# Altium schematic symbol library Eric.SchLib: 21 symbols
Pins are listed as number, name and electrical type; pins without a type are passive.

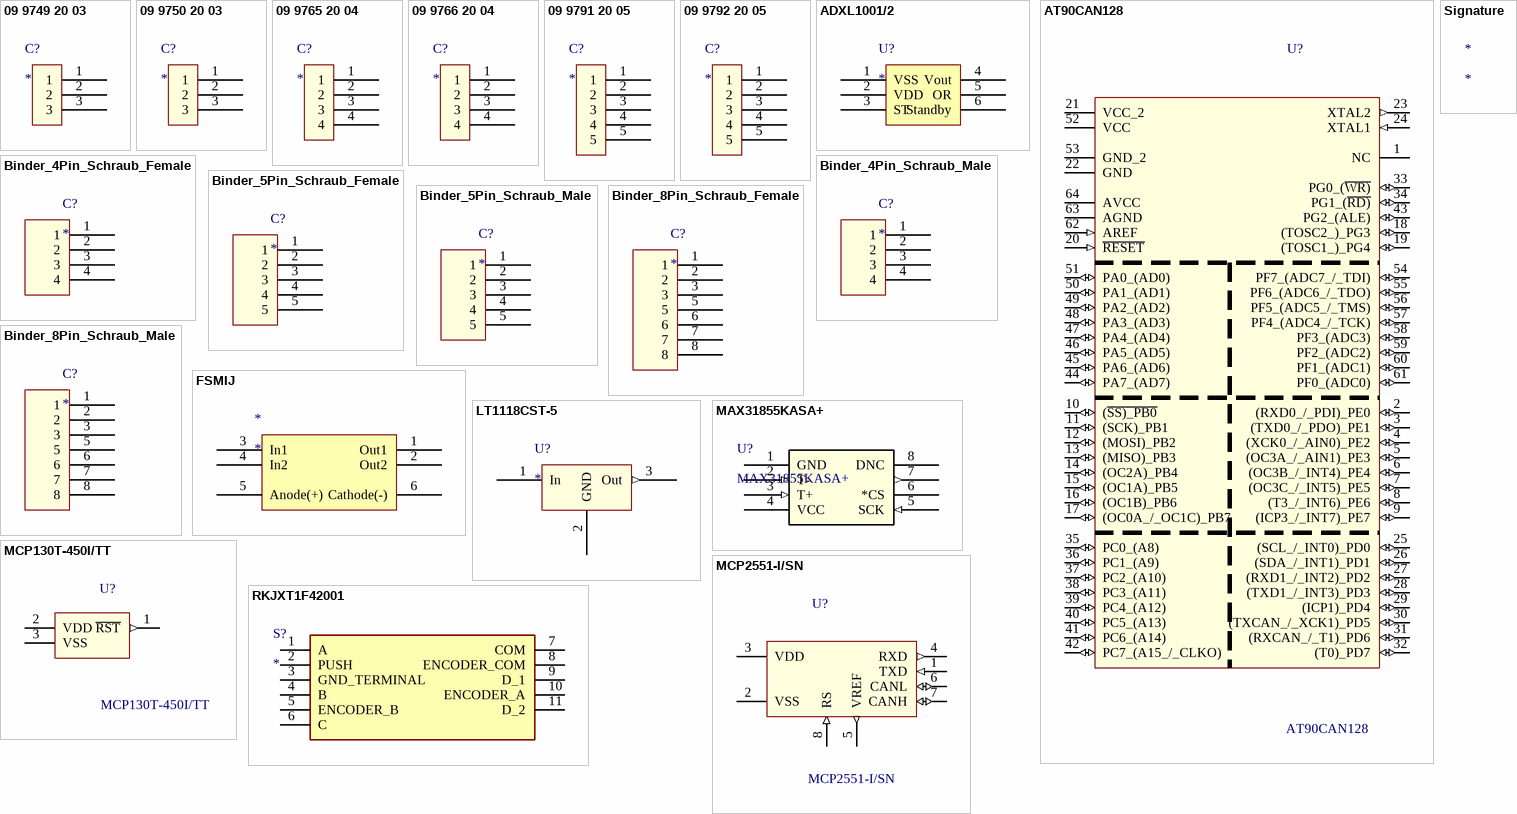
[diagram p0: symbols 09 9749 20 03 to Signature]

## 09 9749 20 03
designator C?
Binder 3 Pin Male SnapIn
footprint 09 9749 20 03 (Binder_3pin_snapin_male)
pins: 1, 2, 3

## 09 9750 20 03
designator C?
Binder 3 Pin Female SnapIn
footprint 09 9750 20 03 (Binder_3pin_snapin_female)
pins: 1, 2, 3

## 09 9765 20 04
designator C?
Binder 4 Pin Male SnapIn
footprint 09 9765 20 04 (Binder_4pin_snapin_male)
pins: 1, 2, 3, 4

## 09 9766 20 04
designator C?
Binder 4 Pin Female SnapIn
footprint 09 9766 20 04 (Binder_4pin_snapin_female)
pins: 1, 2, 3, 4

## 09 9791 20 05
designator C?
Binder 5 Pin Male SnapIn
footprint 09 9791 20 05 (Binder_5pin_snapin_male)
pins: 1, 2, 3, 4, 5

## 09 9792 20 05
designator C?
Binder 5 Pin Female SnapIn
footprint 09 9792 20 05 (Binder_5pin_snapin_female)
pins: 1, 2, 3, 4, 5

## ADXL1001/2
designator U?
footprint PCBComponent_1; pin to pad 1>13 2>12 3>16 4>30 5>20 6>15
pins: 1 VSS, 2 VDD, 3 ST, 4 Vout, 5 OR, 6 Standby

## AT90CAN128
designator U?
Ic Mcu 8bit 128kb Flash 64tqfp; MP: AT90CAN128-16AI; MF: Microchip; Package: TQFP-64 Microchip; SnapEDA_Link: https://www.snapeda.com/parts/AT90CAN128-16AI/Microchip/view-part/?ref=snap; Price: None; Availability: Unavailable; Value: *
footprint AT90CAN128-16MU (QFN, 64-Leads, Body 9,00x9,00mm, Pitch 0,50mm, Thermal Pad 5,25x5,25mm, IPC Medium Density)
footprint *QFP80P1600X1600X120-64N
pins: 1 NC, 2 (RXD0_/_PDI)_PE0 (io), 3 (TXD0_/_PDO)_PE1 (io), 4 (XCK0_/_AIN0)_PE2 (io), 5 (OC3A_/_AIN1)_PE3 (io), 6 (OC3B_/_INT4)_PE4 (io), 7 (OC3C_/_INT5)_PE5 (io), 8 (T3_/_INT6)_PE6 (io), 9 (ICP3_/_INT7)_PE7 (io), 10 (~{SS)_PB0} (io), 11 (SCK)_PB1 (io), 12 (MOSI)_PB2 (io), 13 (MISO)_PB3 (io), 14 (OC2A)_PB4 (io), 15 (OC1A)_PB5 (io), 16 (OC1B)_PB6 (io), 17 (OC0A_/_OC1C)_PB7 (io), 18 (TOSC2_)_PG3 (io), 19 (TOSC1_)_PG4 (io), 20 ~{RESET} (in), 21 VCC_2 (power), 22 GND, 23 XTAL2 (out), 24 XTAL1 (in), 25 (SCL_/_INT0)_PD0 (io), 26 (SDA_/_INT1)_PD1 (io), 27 (RXD1_/_INT2)_PD2 (io), 28 (TXD1_/_INT3)_PD3 (io), 29 (ICP1)_PD4 (io), 30 (TXCAN_/_XCK1)_PD5 (io), 31 (RXCAN_/_T1)_PD6 (io), 32 (T0)_PD7 (io), 33 PG0_(~{WR)} (io), 34 PG1_(~{RD)} (io), 35 PC0_(A8) (io), 36 PC1_(A9) (io), 37 PC2_(A10) (io), 38 PC3_(A11) (io), 39 PC4_(A12) (io), 40 PC5_(A13) (io), 41 PC6_(A14) (io), 42 PC7_(A15_/_CLKO) (io), 43 PG2_(ALE) (io), 44 PA7_(AD7) (io), 45 PA6_(AD6) (io), 46 PA5_(AD5) (io), 47 PA4_(AD4) (io), 48 PA3_(AD3) (io), 49 PA2_(AD2) (io), 50 PA1_(AD1) (io), 51 PA0_(AD0) (io), 52 VCC (power), 53 GND_2, 54 PF7_(ADC7_/_TDI) (io), 55 PF6_(ADC6_/_TDO) (io), 56 PF5_(ADC5_/_TMS) (io), 57 PF4_(ADC4_/_TCK) (io), 58 PF3_(ADC3) (io), 59 PF2_(ADC2) (io), 60 PF1_(ADC1) (io), 61 PF0_(ADC0) (io), 62 AREF (in), 63 AGND, 64 AVCC (power)

## Binder_4Pin_Schraub_Female
designator C?
footprint 09 0412 30 04 (M9 IP67 Flanschdose, Polzahl: 4, schirmbar, mit Schirmblech, tauchlöten, IP67)
pins: 1, 2, 3, 4

## Binder_4Pin_Schraub_Male
designator C?
footprint 09 0411 30 04 (M9 IP67 Flanschstecker, Polzahl: 4, schirmbar, mit Schirmblech, tauchlöten, IP67)
pins: 1, 2, 3, 4

## Binder_5Pin_Schraub_Female
designator C?
footprint 09 0416 30 05 (M9 IP67 Flanschdose, Polzahl: 4, schirmbar, mit Schirmblech, tauchlöten, IP67)
pins: 1, 2, 3, 4, 5

## Binder_5Pin_Schraub_Male
designator C?
footprint 09 0415 30 05 (M9 IP67 Flanschstecker, Polzahl: 5, schirmbar, mit Schirmblech, tauchlöten, IP67)
pins: 1, 2, 3, 4, 5

## Binder_8Pin_Schraub_Female
designator C?
footprint 09 0428 30 08 (M9 IP67 Flanschdose, Polzahl: 8, schirmbar, mit Schirmblech, tauchlöten, IP67)
pins: 1, 2, 3, 5, 6, 7, 8

## Binder_8Pin_Schraub_Male
designator C?
footprint 09 0427 30 08 (M9 IP67 Flanschstecker, Polzahl: 8, schirmbar, mit Schirmblech, tauchlöten, IP67)
pins: 1, 2, 3, 5, 6, 7, 8

## FSMIJ
designator *
footprint FSMIJ
pins: 1 Out1, 2 Out2, 3 In1, 4 In2, 5 Anode(+), 6 Cathode(-)

## LT1118CST-5
designator U?
or UA78M if used topdown (in and out changed)
footprint *SOT230P700X180-4N
pins: 1 In (power), 2 GND, 3 Out (out)

## MAX31855KASA+
designator U?
No Description Available; Vendor: Maxim Integrated Products; Built_By: EMA_UL_Team; Manufacturer_Part_Number: MAX31855KASA+; Copyright: Copyright (C) 2018 Accelerated Designs. All rights reserved; RefDes: RefDes; Type: DEV; Value: Value
footprint SOIC8 (SOIC, 8-Leads, Body 4,90x3,90mm, Pitch 1,27mm, IPC Low Density)
pins: 1 GND (power), 2 T- (in), 3 T+ (in), 4 VCC (power), 5 SCK (in), 6 *CS, 7 SO (out), 8 DNC

## MCP130T-450I/TT
designator U?
System Supervisors - Power Supply Monitors with Reset Generators Open Drain Low; MF: Microchip; MP: MCP120T-450I/TT; Price: None; SnapEDA_Link: https://www.snapeda.com/parts/MCP120T-450I/TT/Microchip/view-part/?ref=snap; Package: SOT-23-3 Microchip; Availability: Unavailable; Value: *
footprint *SOT95P237X112-3N
pins: 1 ~{RST} (out), 2 VDD (power), 3 VSS (power)

## MCP2551-I/SN
designator U?
MCP2551 Series 5.5 V 1 Mb/s Surface Mount High-Speed CAN Transceiver - SOIC-8; MF: Microchip; MP: MCP2551-I/SN; SnapEDA_Link: https://www.snapeda.com/parts/MCP2551-I/SN/Microchip/view-part/?ref=snap; Price: None; Package: SOIC-8 Microchip; Availability: Unavailable; Value: *
footprint *SOIC127P600X175-8N
pins: 1 TXD (in), 2 VSS, 3 VDD (power), 4 RXD (out), 5 VREF (out), 6 CANL (io), 7 CANH (io), 8 RS (in)

## RKJXT1F42001
designator S?
Switch; Manufacturer_Name: ALPS; Manufacturer_Part_Number: RKJXT1F42001; Datasheet Link: http://www.alps.com/prod/info/E/HTML/MultiControl/Switch/RKJXT/RKJXT1F42001.html; Height: 17mm; Mouser2 Part Number: 688-RKJXT1F42001; Mouser2 Price/Stock: https://www.mouser.com/Search/Refine.aspx?Keyword=688-RKJXT1F42001
footprint RKJXT1F42001
pins: 1 A, 2 PUSH, 3 GND_TERMINAL, 4 B, 5 ENCODER_B, 6 C, 7 COM, 8 ENCODER_COM, 9 D_1, 10 ENCODER_A, 11 D_2

## Signature
designator *
footprint Signature